# EAGLE library part M08 (library con-amp-quick)
AMP QUICK CONNECTOR
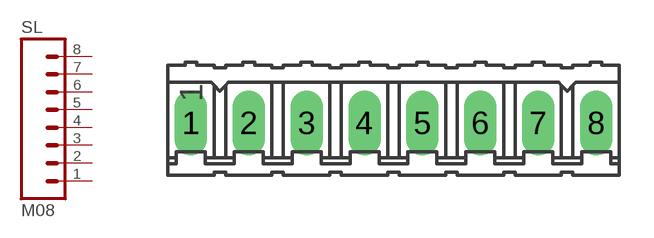
[diagram p25: symbol with the pads of 08P; footprint 08P]

Designator prefix SL

## M08 (OC_FARNELL: unknown; OC_NEWARK: unknown)  [08P]
1  1  pas
2  2  pas
3  3  pas
4  4  pas
5  5  pas
6  6  pas
7  7  pas
8  8  pas

## Footprint 08P (pad centres in mm)
AMP QUICK CONNECTOR
drill 0.914 long: 1 -8.89,0; 2 -6.35,0; 3 -3.81,0; 4 -1.27,0; 5 1.27,0; 6 3.81,0; 7 6.35,0; 8 8.89,0